# EAGLE library part NUP4304 (library NUP4304_ESD_Diode_Array)
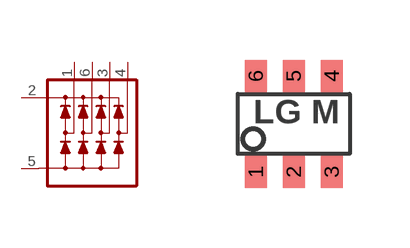
[diagram p0: symbol with the pads of SOT457R_PHILIPS; footprint SOT457R_PHILIPS]

Designator prefix -

## NUP4304SOT457_R  [SOT457R_PHILIPS]
1  D1  pas
2  V+  pas
3  D3  pas
4  D4  pas
5  V-  pas
6  D2  pas

## Footprint SOT457R_PHILIPS (pad centres in mm)
Small Outline Transistor; 6 leads SOT457 (SC-74) FOOTPRINT (REFLOW SOLDERING) Philips Semiconductors, sot457-(sc-74)-reflow-wave.pdf
smd 0.55 x 0.8: 1 -0.95,-1.2; 2 0,-1.2; 3 0.95,-1.2; 4 0.95,1.2; 5 0,1.2; 6 -0.95,1.2